# EAGLE library part BOURNS_CAT16-XXXJ8 (library travis)
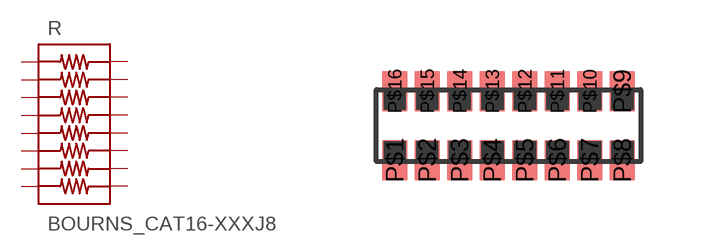
[diagram p3: symbol with the pads of BOURNS_CAT16-J8; footprint BOURNS_CAT16-J8]

Designator prefix R

## BOURNS_CAT16-XXXJ8  [BOURNS_CAT16-J8]
P$1  P$1  pas
P$2  P$2  pas
P$3  P$3  pas
P$4  P$4  pas
P$5  P$5  pas
P$6  P$6  pas
P$7  P$7  pas
P$8  P$8  pas
P$9  P$9  pas
P$10  P$10  pas
P$11  P$11  pas
P$12  P$12  pas
P$13  P$13  pas
P$14  P$14  pas
P$15  P$15  pas
P$16  P$16  pas

## Footprint BOURNS_CAT16-J8 (pad centres in mm)
smd 0.635 x 1.016: P$1 -2.845,-0.864; P$2 -2.032,-0.864; P$3 -1.219,-0.864; P$4 -0.406,-0.864; P$5 0.406,-0.864; P$6 1.219,-0.864; P$7 2.032,-0.864; P$8 2.845,-0.864; P$9 2.845,0.864; P$10 2.032,0.864; P$11 1.219,0.864; P$12 0.406,0.864; P$13 -0.406,0.864; P$14 -1.219,0.864; P$15 -2.032,0.864; P$16 -2.845,0.864